# EAGLE library part TLHPFOC_LINK (library ElectricNoodleBox)
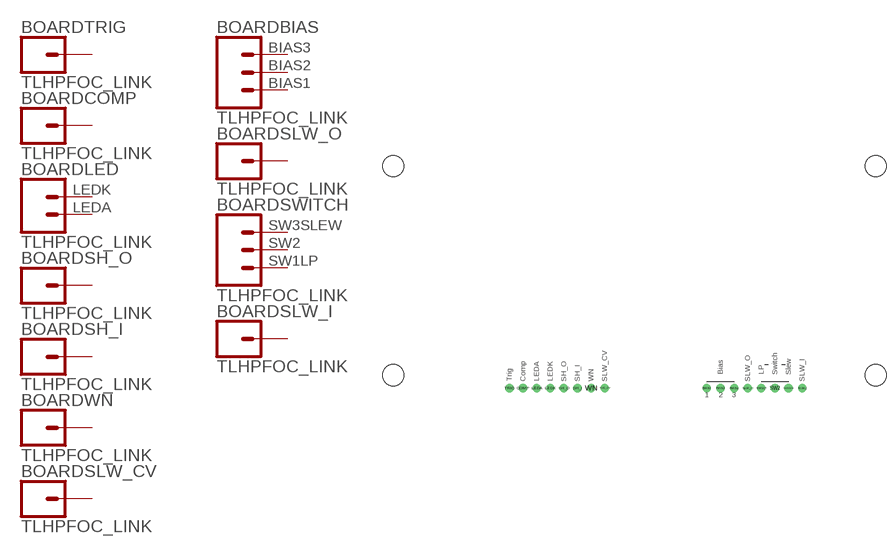
[diagram p25: symbol with the pads of TLHPFOC; footprint TLHPFOC]

Designator prefix BOARD; gates TRIG=CONN_01 COMP=CONN_01 LED=CONN_02 SH_O=CONN_01 SH_I=CONN_01 WN=CONN_01 SLW_CV=CONN_01 BIAS=CONN_03 SLW_O=CONN_01 SWITCH=CONN_03 SLW_I=CONN_01

## TLHPFOC_LINK  [TLHPFOC]
BIAS1  BIAS:1  pas
BIAS2  BIAS:2  pas
BIAS3  BIAS:3  pas
COMP  COMP:1  pas
LEDA  LED:1  pas
LEDK  LED:2  pas
SH_I  SH_I:1  pas
SH_O  SH_O:1  pas
SLW_CV  SLW_CV:1  pas
SLW_I  SLW_I:1  pas
SLW_O  SLW_O:1  pas
SW1LP  SWITCH:1  pas
SW2  SWITCH:2  pas
SW3SLEW  SWITCH:3  pas
TRIG  TRIG:1  pas
WN  WN:1  pas

## Footprint TLHPFOC (pad centres in mm)
drill 1.016: BIAS1 63.5,2.54; BIAS2 66.04,2.54; BIAS3 68.58,2.54; COMP 29.21,2.54; LEDA 31.75,2.54; LEDK 34.29,2.54; SH_I 39.37,2.54; SH_O 36.83,2.54; SLW_CV 44.45,2.54; SLW_I 81.28,2.54; SLW_O 71.12,2.54; SW1LP 73.66,2.54; SW2 76.2,2.54; SW3SLEW 78.74,2.54; TRIG 26.67,2.54; WN 41.91,2.54
hole 4 at 5,5
hole 4 at 95,5
hole 4 at 95,44
hole 4 at 5,44